# EAGLE library part AD633JN (library linear)
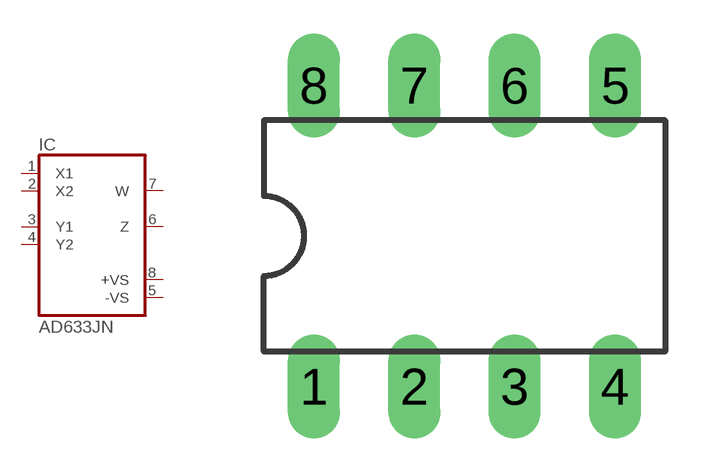
[diagram p204: symbol with the pads of DIL08; footprint DIL08]

Designator prefix IC

## AD633JN  [DIL08]
1  X1  in
2  X2  in
3  Y1  in
4  Y2  in
5  -VS  pwr
6  Z  in
7  W  out
8  +VS  pwr

## Footprint DIL08 (pad centres in mm)
Dual In Line Package
drill 0.813 pad 1.27 long: 1 -3.81,-3.81; 2 -1.27,-3.81; 3 1.27,-3.81; 4 3.81,-3.81; 5 3.81,3.81; 6 1.27,3.81; 7 -1.27,3.81; 8 -3.81,3.81